# EAGLE library part FTSH-105-01-L-DV (library con-samtec)
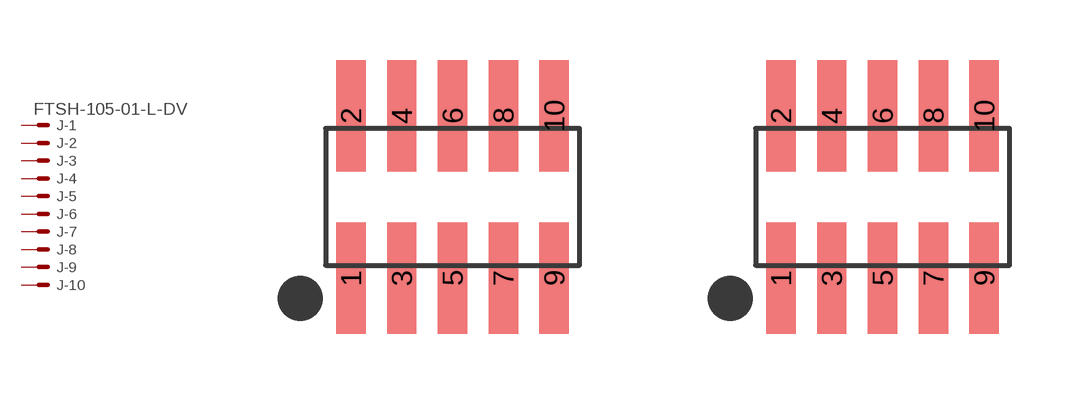
[diagram p0: symbol with the pads of FTSH-105-01-L-DV; footprints FTSH-105-01-L-DV, FTSH-105-01-L-DV-NOPASTE]

Designator prefix J; gates -1=MV-1 -2=M-1 -3=M-1 -4=M-1 -5=M-1 -6=M-1 -7=M-1 -8=M-1 -9=M-1 -10=M-1

## FTSH-105-01-L-DV  [FTSH-105-01-L-DV]
1  -1:S  pas
2  -2:S  pas
3  -3:S  pas
4  -4:S  pas
5  -5:S  pas
6  -6:S  pas
7  -7:S  pas
8  -8:S  pas
9  -9:S  pas
10  -10:S  pas

## FTSH-105-01-L-DV-NOPASTE  [FTSH-105-01-L-DV-NOPASTE]
Pads as for FTSH-105-01-L-DV

## Footprint FTSH-105-01-L-DV (pad centres in mm)
smd 0.737 x 2.794: 1 -2.54,-2.032; 2 -2.54,2.032; 3 -1.27,-2.032; 4 -1.27,2.032; 5 0,-2.032; 6 0,2.032; 7 1.27,-2.032; 8 1.27,2.032; 9 2.54,-2.032; 10 2.54,2.032

## Footprint FTSH-105-01-L-DV-NOPASTE (pad centres in mm)
smd 0.737 x 2.794: 1 -2.54,-2.032; 2 -2.54,2.032; 3 -1.27,-2.032; 4 -1.27,2.032; 5 0,-2.032; 6 0,2.032; 7 1.27,-2.032; 8 1.27,2.032; 9 2.54,-2.032; 10 2.54,2.032